# Altium footprint library SH7050MB.PcbLib: 1 footprints
Each footprint in its own frame and in the unit in brackets; x right, y up, seen from the top. Pads: shape width x height; smd on the part's side, far side on the other; paste and mask are expansions set on the pad; w line width, h text height; cw(c..) or ccw(c..) is an arc to the next point about the centre after c.
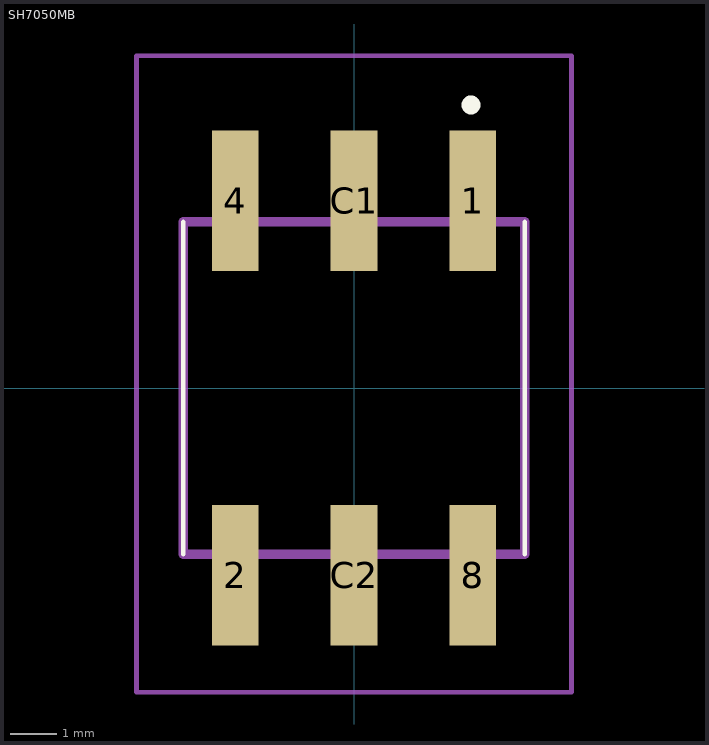
[diagram p0: the footprint, top view; thin cyan lines are the x and y axes]

## SH7050MB [mm]
pads (6):
  rect 1x3 smd: 1(2.54,4) 2(-2.54,-4) 4(-2.54,4) 8(2.54,-4) C1(0,4) C2(0,-4)
Top Overlay:
  lines w0.1: -3.65,-3.55 -3.65,3.55 ; 3.65,-3.55 3.65,3.55
  lines w0.3: 2.5,6 2.5,6 ; 2.5,6 ccw(c2.5,6.05) 2.5,6.1 ; 2.5,6 cw(c2.5,6.05) 2.5,6.1 ; 2.5,6.1 2.5,6.1
Mechanical 15:
  lines w0.2: -3.65,-3.55 3.65,-3.55 3.65,3.55 -3.65,3.55 -3.65,-3.55
Mechanical 20:
  lines w0.1: -4.65,-6.5 4.65,-6.5 4.65,7.1 -4.65,7.1 -4.65,-6.5